# Altium footprint library Capacitors SMD.PcbLib: 115 footprints (part 5 of 8)
Each footprint in its own frame and in the unit in brackets; x right, y up, seen from the top. Pads: shape width x height; smd on the part's side, far side on the other; paste and mask are expansions set on the pad; w line width, h text height; cw(c..) or ccw(c..) is an arc to the next point about the centre after c.
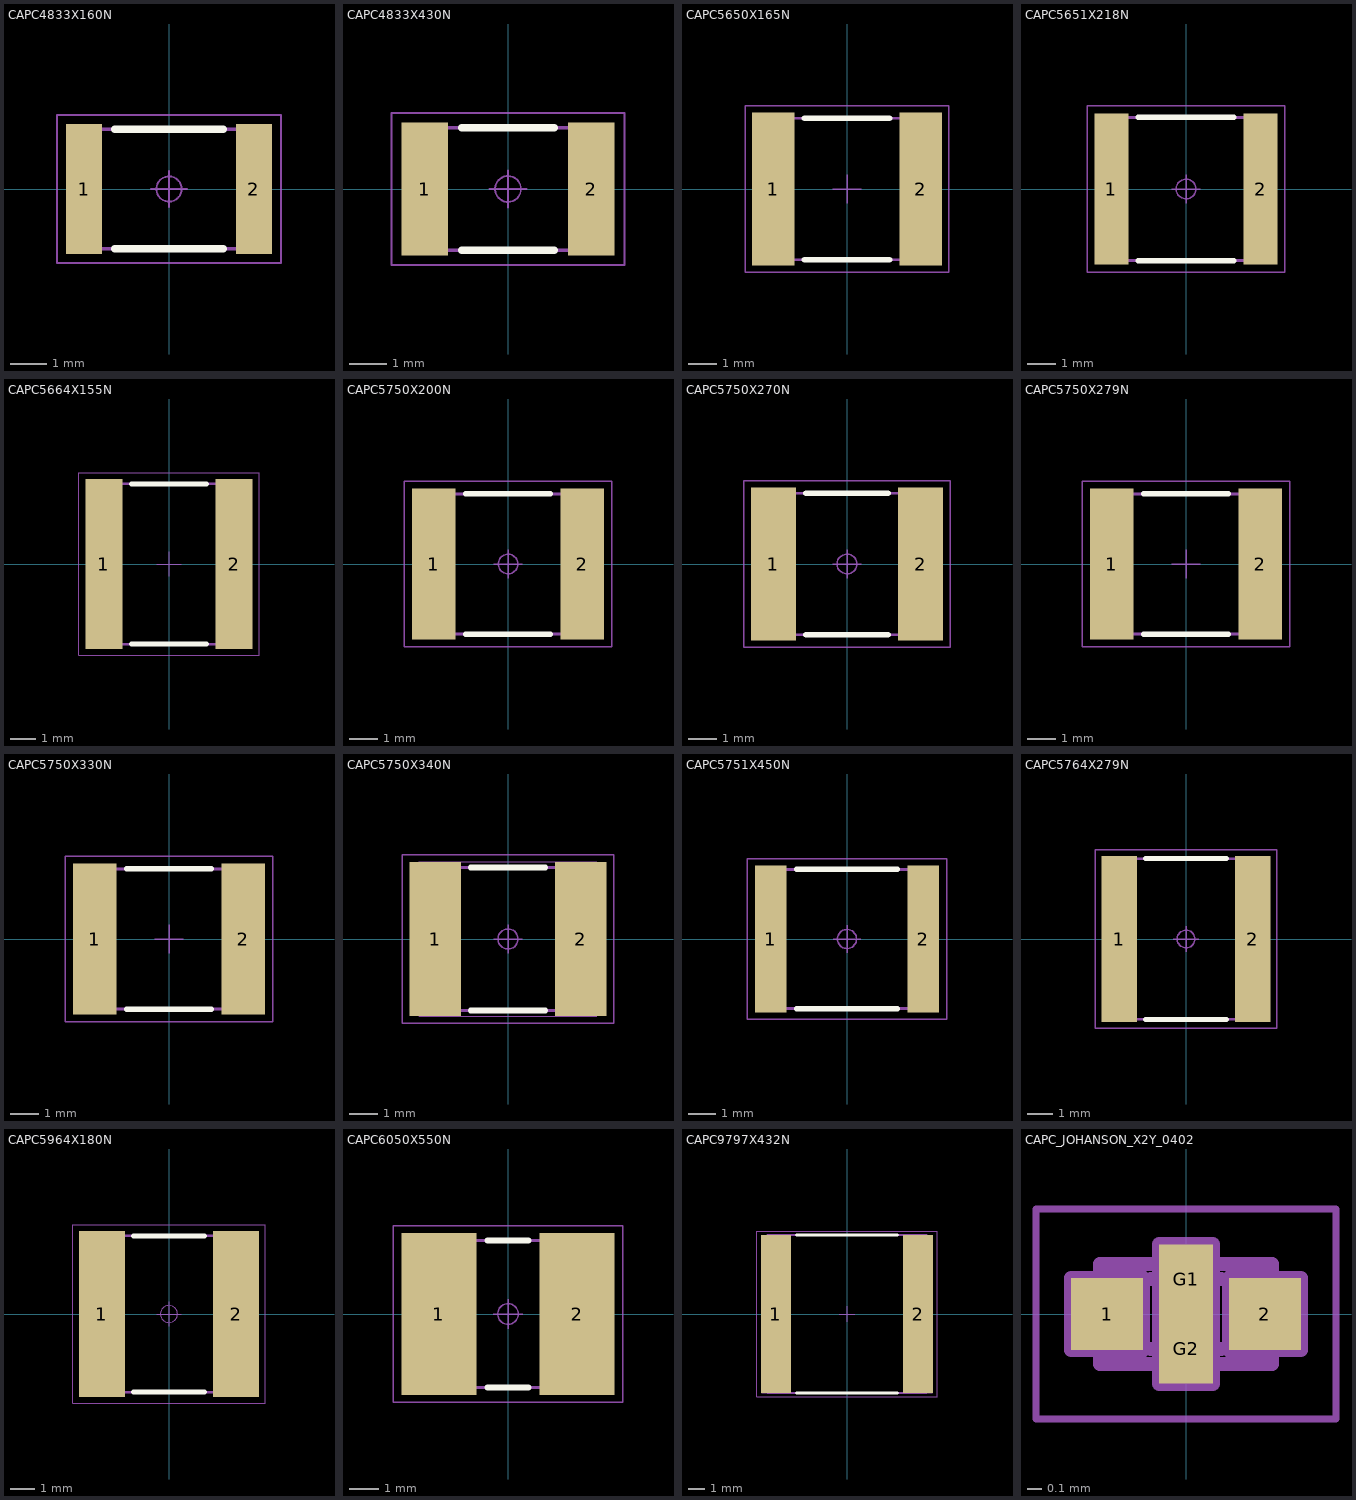
[diagram p4: the footprints below, top view; thin cyan lines are the x and y axes]

## CAPC4833X160N [mm] "Chip Capacitor, 2-Leads, Body 4.8x3.3mm, IPC Medium Density"
height 1.6
pads (2):
  rect 1x3.6 smd: 1(-2.35,0) 2(2.35,0)
Top Overlay:
  lines w0.2: -1.5,-1.65 1.5,-1.65 ; -1.5,1.65 1.5,1.65
Mechanical 14:
  lines w0.1: -2.4,-1.65 2.4,-1.65 2.4,1.65 -2.4,1.65 -2.4,-1.65
Mechanical 15:
  circle w0.05: c0,0 r0.35
  lines w0.05: -0.5,0 0.5,0 ; 0,-0.5 0,0.5 ; -3.1,-2.05 3.1,-2.05 3.1,2.05 -3.1,2.05 -3.1,-2.05
3D body "CAPC4833X160N.stp": height 1.6, standoff 0, extent -2.4,-1.65 2.4,1.65

## CAPC4833X430N [mm] "Capacitor, Non-Polarized, Chip; 4.80mm L X 3.30mm W X 4.30mm H, IPC Medium Density"
height 4.3
pads (2):
  rect 1.25x3.6 smd: 1(-2.25,0) 2(2.25,0)
Top Overlay:
  lines w0.2: -1.25,-1.65 1.25,-1.65 ; -1.25,1.65 1.25,1.65
Mechanical 14:
  lines w0.1: -2.4,-1.65 2.4,-1.65 2.4,1.65 -2.4,1.65 -2.4,-1.65
Mechanical 15:
  circle w0.05: c0,0 r0.35
  lines w0.05: -0.5,0 0.5,0 ; 0,-0.5 0,0.5 ; -3.15,-2.05 3.15,-2.05 3.15,2.05 -3.15,2.05 -3.15,-2.05
3D body "CAPC4833X430N.stp": height 4.3, standoff 0, extent -2.55,-1.8 2.55,1.8

## CAPC5650X165N [mm] "Chip Capacitor, 2-Leads,Body 5.6x5mm, IPC Medium Density"
height 1.65
pads (2):
  rect 1.5x5.4 smd: 1(-2.6,0) 2(2.6,0)
Top Overlay:
  lines w0.2: -1.5,-2.5 1.5,-2.5 ; -1.5,2.5 1.5,2.5
Mechanical 14:
  lines w0.1: -2.8,-2.5 2.8,-2.5 2.8,2.5 -2.8,2.5 -2.8,-2.5
Mechanical 15:
  lines w0.05: -0.5,0 0.5,0 ; 0,-0.5 0,0.5 ; -3.6,-2.95 3.6,-2.95 3.6,2.95 -3.6,2.95 -3.6,-2.95
3D body "CAPC5650X165N.stp": height 1.65, standoff 0, extent -3,-2.7 3,2.7

## CAPC5651X218N [mm] "Chip Capacitor, 2-Leads,Body 5.6x5.1mm, IPC Medium Density"
height 2.18
pads (2):
  rect 1.2x5.35 smd: 1(-2.65,0) 2(2.65,0)
Top Overlay:
  lines w0.2: -1.7,-2.55 1.7,-2.55 ; -1.7,2.55 1.7,2.55
Mechanical 14:
  lines w0.1: -2.795,-2.54 -2.795,2.54 2.795,2.54 2.795,-2.54 -2.795,-2.54
Mechanical 15:
  circle w0.05: c0,0 r0.35
  lines w0.05: -0.5,0 0.5,0 ; 0,-0.5 0,0.5 ; -3.5,-2.95 -3.5,2.95 3.5,2.95 3.5,-2.95 -3.5,-2.95
3D body "CAPC5651X218N.stp": height 2.18, standoff 0, extent -2.795,-2.54 2.795,2.54

## CAPC5664X155N [mm] "Chip Capacitor, 2-Leads, Body 5.6x6.4mm, IPC Medium Density"
height 1.55
pads (2):
  rect 1.5x6.8 smd: 1(-2.6,0) 2(2.6,0)
Top Overlay:
  lines w0.2: -1.5,-3.2 1.5,-3.2 ; -1.5,3.2 1.5,3.2
Mechanical 14:
  lines w0.1: -2.8,-3.2 2.8,-3.2 2.8,3.2 -2.8,3.2 -2.8,-3.2
Mechanical 15:
  lines w0.05: -0.5,0 0.5,0 ; 0,-0.5 0,0.5 ; -3.6,-3.65 3.6,-3.65 3.6,3.65 -3.6,3.65 -3.6,-3.65
3D body "CAPC5664X155N.stp": height 1.55, standoff 0, extent -3,-3.4 3,3.4

## CAPC5750X200N [mm] "Chip Capacitor, 2-Leads, Body 5.7x5.0mm, IPC Medium Density"
height 2
pads (2):
  rect 1.55x5.4 smd: 1(-2.65,0) 2(2.65,0)
Top Overlay:
  lines w0.2: -1.5,-2.5 1.5,-2.5 ; -1.5,2.5 1.5,2.5
Mechanical 14:
  lines w0.1: -2.85,-2.5 2.85,-2.5 2.85,2.5 -2.85,2.5 -2.85,-2.5
Mechanical 15:
  circle w0.05: c0,0 r0.35
  lines w0.05: -0.5,0 0.5,0 ; 0,-0.5 0,0.5 ; -3.7,-2.95 3.7,-2.95 3.7,2.95 -3.7,2.95 -3.7,-2.95
3D body "CAPC5750X200N.stp": height 2, standoff 0, extent -3.05,-2.7 3.05,2.7

## CAPC5750X270N [mm] "Chip Capacitor, 2-Leads, Body 5.7x5.0mm, IPC Medium Density"
height 2.7
pads (2):
  rect 1.6x5.4 smd: 1(-2.6,0) 2(2.6,0)
Top Overlay:
  lines w0.2: -1.45,-2.5 1.45,-2.5 ; -1.45,2.5 1.45,2.5
Mechanical 14:
  lines w0.1: -2.85,-2.5 2.85,-2.5 2.85,2.5 -2.85,2.5 -2.85,-2.5
Mechanical 15:
  circle w0.05: c0,0 r0.35
  lines w0.05: -0.5,0 0.5,0 ; 0,-0.5 0,0.5 ; -3.65,-2.95 3.65,-2.95 3.65,2.95 -3.65,2.95 -3.65,-2.95
3D body "CAPC5750X270N.stp": height 2.7, standoff 0, extent -2.85,-2.5 2.85,2.5

## CAPC5750X279N [mm] "Chip Capacitor, 2-Leads, Body 5.7x5.0mm, IPC Medium Density"
height 2.79
pads (2):
  rect 1.55x5.4 smd: 1(-2.65,0) 2(2.65,0)
Top Overlay:
  lines w0.2: -1.5,-2.5 1.5,-2.5 ; -1.5,2.5 1.5,2.5
Mechanical 14:
  lines w0.1: -2.85,-2.5 2.85,-2.5 2.85,2.5 -2.85,2.5 -2.85,-2.5
Mechanical 15:
  lines w0.05: -0.5,0 0.5,0 ; 0,-0.5 0,0.5 ; -3.7,-2.95 3.7,-2.95 3.7,2.95 -3.7,2.95 -3.7,-2.95
3D body "CAPC5750X279N.stp": height 2.79, standoff 0, extent -3.05,-2.7 3.05,2.7

## CAPC5750X330N [mm] "Chip Capacitor, 2-Leads, Body 5.7x5.0mm, IPC Medium Density"
height 3.3
pads (2):
  rect 1.55x5.4 smd: 1(-2.65,0) 2(2.65,0)
Top Overlay:
  lines w0.2: -1.5,-2.5 1.5,-2.5 ; -1.5,2.5 1.5,2.5
Mechanical 14:
  lines w0.1: -2.85,-2.5 -2.85,2.5 2.85,2.5 2.85,-2.5 -2.85,-2.5
Mechanical 15:
  lines w0.05: -0.5,0 0.5,0 ; 0,-0.5 0,0.5 ; -3.7,-2.95 -3.7,2.95 3.7,2.95 3.7,-2.95 -3.7,-2.95
3D body "CAPC5750X330N.stp": height 3.3, standoff 0, extent -3.05,-2.7 3.05,2.7

## CAPC5750X340N [mm] "Chip Capacitor, 2-Leads, Body 5.7x5.0mm, IPC Medium Density"
height 3.4
pads (2):
  rect 1.8x5.4 smd: 1(-2.55,0) 2(2.55,0)
Top Overlay:
  lines w0.2: -1.3,-2.5 1.3,-2.5 ; -1.3,2.5 1.3,2.5
Mechanical 8:
  lines w0.001: -3.1,-2.7 -3.1,2.7 3.1,2.7 3.1,-2.7 -3.1,-2.7
Mechanical 14:
  lines w0.1: -2.85,-2.5 -2.85,2.5 2.85,2.5 2.85,-2.5 -2.85,-2.5
Mechanical 15:
  circle w0.05: c0,0 r0.35
  lines w0.05: -0.5,0 0.5,0 ; 0,-0.5 0,0.5 ; -3.7,-2.95 -3.7,2.95 3.7,2.95 3.7,-2.95 -3.7,-2.95
3D body "CAPC5750X340N.stp": height 3.4, standoff 0, extent -3.05,-2.7 3.05,2.7

## CAPC5751X450N [mm] "Chip Capacitor, 2-Leads,Body 5.7x5.1mm, IPC Medium Density"
height 4.5
pads (2):
  rect 1.15x5.4 smd: 1(-2.8,0) 2(2.8,0)
Top Overlay:
  lines w0.2: -1.85,-2.55 1.85,-2.55 ; -1.85,2.55 1.85,2.55
Mechanical 14:
  lines w0.1: -2.85,-2.55 -2.85,2.55 2.85,2.55 2.85,-2.55 -2.85,-2.55
Mechanical 15:
  circle w0.05: c0,0 r0.35
  lines w0.05: -0.5,0 0.5,0 ; 0,-0.5 0,0.5 ; -3.65,-2.95 -3.65,2.95 3.65,2.95 3.65,-2.95 -3.65,-2.95
3D body "CAPC5751X450N.stp": height 4.5, standoff 0, extent -2.85,-2.55 2.85,2.55

## CAPC5764X279N [mm] "Capacitor, Non-Polarized, Chip; 5.72mm L X 6.35mm W X 2.794mm H, IPC Medium Density"
height 2.79
pads (2):
  rect 1.4x6.6 smd: 1(-2.65,0) 2(2.65,0)
Top Overlay:
  lines w0.2: -1.6,-3.2 1.6,-3.2 ; -1.6,3.2 1.6,3.2
Mechanical 14:
  lines w0.1: -2.86,-3.175 -2.86,3.175 2.86,3.175 2.86,-3.175 -2.86,-3.175
Mechanical 15:
  circle w0.05: c0,0 r0.35
  lines w0.05: -0.5,0 0.5,0 ; 0,-0.5 0,0.5 ; -3.6,-3.55 -3.6,3.55 3.6,3.55 3.6,-3.55 -3.6,-3.55
3D body "CAPC5764X279N.stp": height 2.79, standoff 0, extent -2.985,-3.175 2.985,3.175

## CAPC5964X180N [mm] "Capacitor, Non-Polarized, Chip; 5.90mm L X 6.40mm W X 1.80mm H, IPC Medium Density"
height 1.8
pads (2):
  rect 1.9x6.8 smd: 1(-2.75,0) 2(2.75,0)
Top Overlay:
  lines w0.2: -1.45,-3.2 1.45,-3.2 ; -1.45,3.2 1.45,3.2
Mechanical 14:
  lines w0.1: -2.95,-3.2 2.95,-3.2 2.95,3.2 -2.95,3.2 -2.95,-3.2
Mechanical 15:
  circle w0.05: c0,0 r0.35
  lines w0.05: -0.5,0 0.5,0 ; 0,-0.5 0,0.5 ; -3.95,-3.65 3.95,-3.65 3.95,3.65 -3.95,3.65 -3.95,-3.65
3D body "CAPC5964X180N.stp": height 1.8, standoff 0, extent -3.325,-3.4 3.325,3.4

## CAPC6050X550N [mm] "Capacitor, Non-Polarized, Chip; 6.0mm L X 5.0mm W X 5.5mm H, IPC Medium Density"
height 5.5
pads (2):
  rect 2.55x5.5 smd: 1(-2.35,0) 2(2.35,0)
Top Overlay:
  lines w0.2: -0.7,-2.5 0.7,-2.5 ; -0.7,2.5 0.7,2.5
Mechanical 14:
  lines w0.1: -3,-2.5 3,-2.5 3,2.5 -3,2.5 -3,-2.5
Mechanical 15:
  circle w0.05: c0,0 r0.35
  lines w0.05: -0.5,0 0.5,0 ; 0,-0.5 0,0.5 ; -3.9,-3 3.9,-3 3.9,3 -3.9,3 -3.9,-3
3D body "CAPC6050X550N.stp": height 5.5, standoff 0, extent -3.25,-2.75 3.25,2.75

## CAPC9797X432N [mm] "Capacitor, Non-Polarized, Chip; 10.03mm L X 9.9mm W X 4.32mm H"
height 4.32
pads (2):
  rect 1.9x9.9 smd: 1(-4.45,0) 2(4.45,0)
Top Overlay:
  lines w0.2: -3.15,-4.95 3.15,-4.95 ; -3.15,4.95 3.15,4.95
Mechanical 8:
  lines w0.05: -5,0 -4.5,0 ; -4.5,-0.5 -4.5,0 ; -4.5,0.5 -4.5,0 ; -4,0 -4.5,0 ; -0.5,0 0,0 ; 0,-0.5 0,0 ; 0,0.5 0,0 ; 0.5,0 0,0 ; 4,0 4.5,0 ; 4.5,-0.5 4.5,0 ; 4.5,0.5 4.5,0 ; 5,0 4.5,0 ; -5.35,-4.95 -5.35,4.95 -3.65,4.95 -3.65,-4.95 -5.35,-4.95 ; 3.65,-4.95 5.35,-4.95 5.35,4.95 3.65,4.95 3.65,-4.95
Mechanical 14:
  lines w0.1: -5,-4.95 5,-4.95 5,4.95 -5,4.95 -5,-4.95
Mechanical 15:
  lines w0.05: -5.65,-5.2 -5.65,5.2 5.65,5.2 5.65,-5.2 -5.65,-5.2
3D body "CAPC9797X432N.stp": height 4.32, standoff 0, extent -5,-4.95 5,4.95

## CAPC_JOHANSON_X2Y_0402 [mm] "EMIFIL Chip Capacitor, Body 1.143x0.635mm, JOHANSON 0402 (X017) Case"
height 0.66
pads (4):
  rect 0.51x0.51 smd: 1(-0.56,0) 2(0.56,0)
  rect 0.38x0.495 smd: G1(0,0.248) G2(0,-0.248)
Mechanical 8:
  lines w0.1: -0.81,0 -0.56,0 ; -0.56,-0.25 -0.56,0 ; -0.56,0.25 -0.56,0 ; -0.31,0 -0.56,0 ; -0.25,-0.248 0,-0.248 ; -0.25,0.248 0,0.248 0.25,0.248 ; -0.19,0 0,0 ; -0.177,-0.177 0,0 ; -0.177,0.177 0,0 ; 0,-0.497 0,-0.248 ; 0,0.245 0,0.495 ; 0.177,-0.177 0,0 ; 0.177,0.177 0,0 ; 0.19,0 0,0 ; 0.25,-0.248 0,-0.248 ; 0.31,0 0.56,0 ; 0.56,-0.25 0.56,0 ; 0.56,0.25 0.56,0 ; 0.81,0 0.56,0 ; -0.815,-0.255 -0.815,0.255 -0.305,0.255 -0.305,-0.255 -0.815,-0.255 ; -0.19,-0.495 0.19,-0.495 0.19,0.495 -0.19,0.495 -0.19,-0.495 ; 0.305,-0.255 0.305,0.255 0.815,0.255 0.815,-0.255 0.305,-0.255
Mechanical 14:
  lines w0.1: -0.33,-0.356 -0.33,0.356 ; -0.191,-0.356 -0.191,-0.256 0.191,-0.256 0.191,-0.356 ; -0.191,0.356 -0.191,0.256 0.191,0.256 0.191,0.356 ; 0.33,-0.356 0.33,0.356 ; -0.61,-0.356 0.61,-0.356 ; -0.61,-0.356 -0.61,0.356 ; -0.61,-0.356 -0.61,0.356 ; -0.61,0.356 0.61,0.356 ; 0.61,-0.356 0.61,0.356 ; 0.61,-0.356 0.61,0.356
Mechanical 15:
  lines w0.05: -1.065,-0.745 -1.065,0.745 1.065,0.745 1.065,-0.745 -1.065,-0.745
3D body "CAPC_JOHANSON_X2Y_0402.stp": height 0.51, standoff 0, extent -0.609,-0.355 0.61,0.356